# EAGLE library part HALFMOONS_8X2 (library F030NG)
SMD solder 8/2 jumper
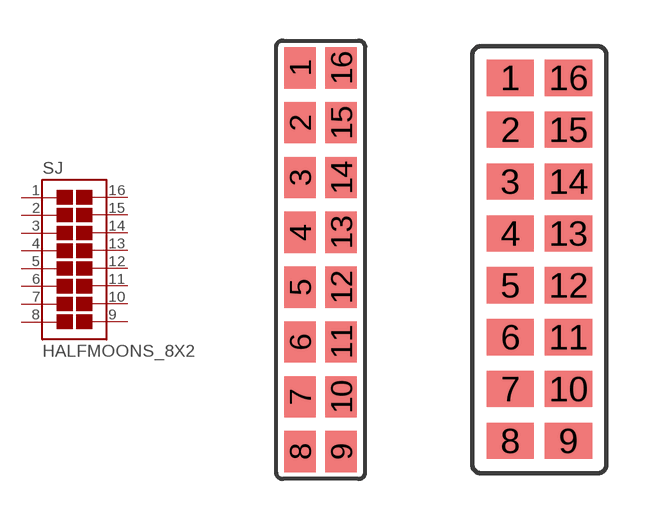
[diagram p38: symbol with the pads of HALFMOONS_8X2; footprints HALFMOONS_8X2, HALFMOONS_8X2-H]

Designator prefix SJ

## HALFMOONS_8X2-W  [HALFMOONS_8X2]
1  1  pas
2  2  pas
3  3  pas
4  4  pas
5  5  pas
6  6  pas
7  7  pas
8  8  pas
9  9  pas
10  10  pas
11  11  pas
12  12  pas
13  13  pas
14  14  pas
15  15  pas
16  16  pas

## HALFMOONS_8X2-H  [HALFMOONS_8X2-H]
Pads as for HALFMOONS_8X2

## Footprint HALFMOONS_8X2 (pad centres in mm)
Solder jumper
smd 1.168 x 1.524: 1 -0.762,0; 2 -0.762,-2.032; 3 -0.762,-4.064; 4 -0.762,-6.096; 5 -0.762,-8.128; 6 -0.762,-10.16; 7 -0.762,-12.192; 8 -0.762,-14.224; 9 0.762,-14.224; 10 0.762,-12.192; 11 0.762,-10.16; 12 0.762,-8.128; 13 0.762,-6.096; 14 0.762,-4.064; 15 0.762,-2.032; 16 0.762,0

## Footprint HALFMOONS_8X2-H (pad centres in mm)
Solder jumper
smd 1.524 x 1.168: 1 -0.94,0; 2 -0.94,-1.676; 3 -0.94,-3.353; 4 -0.94,-5.029; 5 -0.94,-6.706; 6 -0.94,-8.382; 7 -0.94,-10.058; 8 -0.94,-11.735; 9 0.94,-11.735; 10 0.94,-10.058; 11 0.94,-8.382; 12 0.94,-6.706; 13 0.94,-5.029; 14 0.94,-3.353; 15 0.94,-1.676; 16 0.94,0